# Altium footprint library Flex-strap-LiP-weld-6x4.PcbLib: 1 footprints
Each footprint in its own frame and in the unit in brackets; x right, y up, seen from the top. Pads: shape width x height; smd on the part's side, far side on the other; paste and mask are expansions set on the pad; w line width, h text height; cw(c..) or ccw(c..) is an arc to the next point about the centre after c.
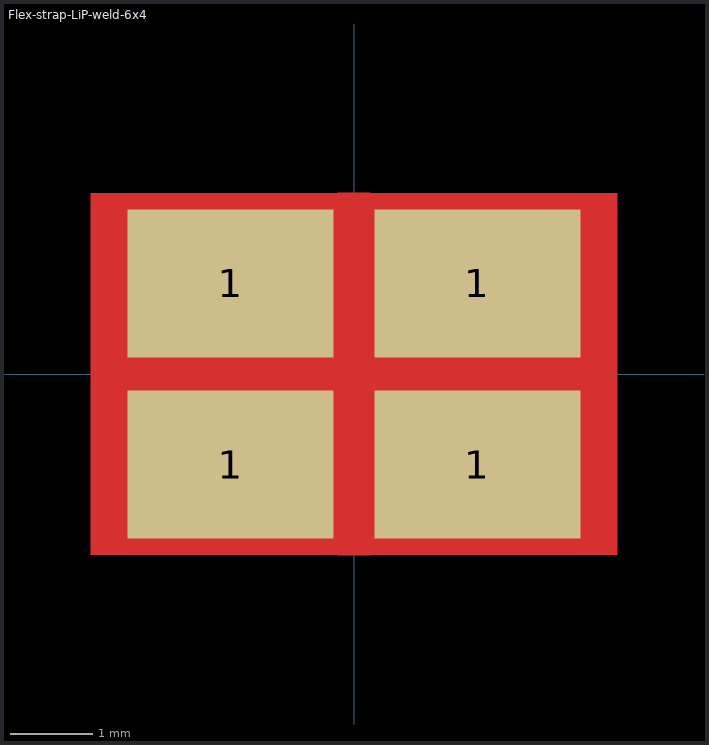
[diagram p0: the footprint, top view; thin cyan lines are the x and y axes]

## Flex-strap-LiP-weld-6x4 [mm]
pads (4):
  rect 2.5x1.8 smd paste-0.05 mask-999: 1(-1.5,-1.1) 1(-1.5,1.1) 1(1.5,-1.1) 1(1.5,1.1)
Top Layer:
  rectangle: 0.2,0.2 3.2,2.2
  rectangle: 0.2,-2.2 3.2,-0.2
  rectangle: -3.2,0.2 -0.2,2.2
  rectangle: -3.2,-2.2 -0.2,-0.2
  pour cut-out: -3.2,-0.2 -3.2,0.2 3.2,0.2 3.2,-0.2
  pour cut-out: -0.2,2.2 0.2,2.2 0.2,-2.2 -0.2,-2.2
Top Solder:
  region: -3,-1.5 -3.01,1.5 -2.971,1.695 -2.86,1.86 -2.695,1.971 -2.5,2.01 -2.5,2 2.5,2.01 2.695,1.971 2.86,1.86 2.971,1.695 3.01,1.5 3,1.5 3.01,-1.5 2.971,-1.695 2.86,-1.86 2.695,-1.971 2.5,-2.01 2.5,-2 -2.5,-2.01 -2.695,-1.971 -2.86,-1.86 -2.971,-1.695 -3.01,-1.5
Mechanical 1:
  lines w0.1: 2.5,0 2.5,0.017 ; 2.5,0.017 cw(c3.183,0.017) 2.7,0.5 2.717,0.517 ccw(c2.034,1.2) 3,1.2 ccw(c2.2,1.2) 2.2,2 0,2 -2.2,2 ccw(c-2.2,1.2) -3,1.2 ccw(c-2.034,1.2) -2.717,0.517 -2.7,0.5 cw(c-3.183,0.017) -2.5,0.017 -2.5,0 -2.5,-0.017 cw(c-3.183,-0.017) -2.7,-0.5 -2.717,-0.517 ccw(c-2.034,-1.2) -3,-1.2 ccw(c-2.2,-1.2) -2.2,-2 2.2,-2 ccw(c2.2,-1.2) 3,-1.2 ccw(c2.034,-1.2) 2.717,-0.517 2.7,-0.5 cw(c3.183,-0.017) 2.5,-0.017 2.5,0.017
3D body: height 0.5, standoff 0, extent -3.008,-2.007 3.008,2.007